# Altium schematic symbol library Schlib1.SchLib: 3 symbols
Pins are listed as number, name and electrical type; pins without a type are passive.

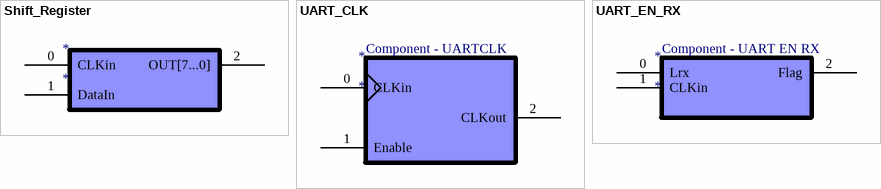
[diagram p0: symbols Shift_Register to UART_EN_RX]

## Shift_Register
designator *
pins: 0 CLKin, 1 DataIn, 2 OUT[7...0]

## UART_CLK
designator *
pins: 0 CLKin, 1 Enable, 2 CLKout
text: Component - UARTCLK

## UART_EN_RX
designator *
pins: 0 Lrx, 1 CLKin, 2 Flag
text: Component - UART EN RX